# EAGLE library part ADC1413D* (library NewSDR)
NXP Dual 14-Bit ADC Serial JESD204A Interface
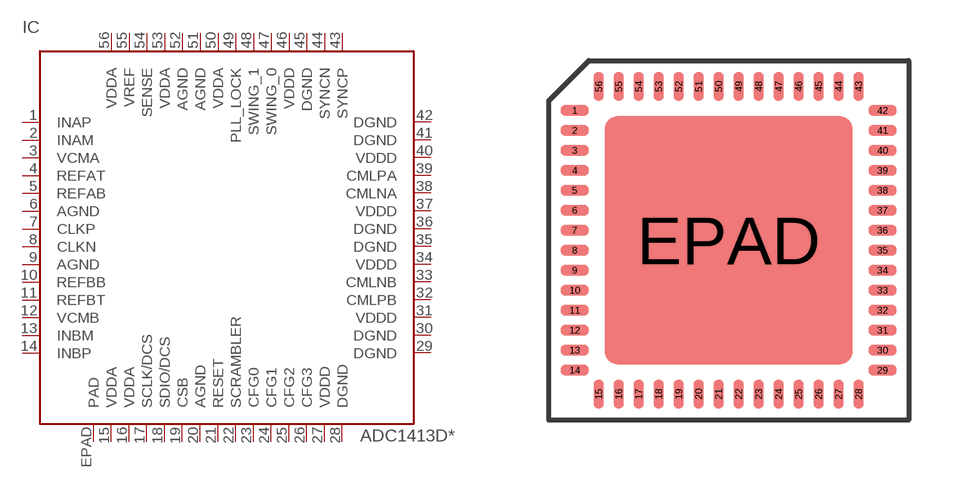
[diagram p127: symbol with the pads of QFN-56_P; footprint QFN-56_P]

Designator prefix IC

## ADC1413D065, ADC1413D080, ADC1413D105, ADC1413D125  [QFN-56_P]
1  INAP  in
2  INAM  in
3  VCMA  out
4  REFAT  out
5  REFAB  out
6  AGND  pwr
7  CLKP  in
8  CLKN  in
9  AGND  pwr
10  REFBB  out
11  REFBT  out
12  VCMB  out
13  INBM  in
14  INBP  in
15  VDDA  pwr
16  VDDA  pwr
17  SCLK/DCS  in
18  SDIO/DCS
19  CSB  in
20  AGND  pwr
21  RESET  in
22  SCRAMBLER  in
23  CFG0
24  CFG1
25  CFG2
26  CFG3
27  VDDD  pwr
28  DGND  pwr
29  DGND  pwr
30  DGND  pwr
31  VDDD  pwr
32  CMLPB  out
33  CMLNB  out
34  VDDD  pwr
35  DGND  pwr
36  DGND  pwr
37  VDDD  pwr
38  CMLNA  out
39  CMLPA  out
40  VDDD  pwr
41  DGND  pwr
42  DGND  pwr
43  SYNCP  in
44  SYNCN  in
45  DGND  pwr
46  VDDD  pwr
47  SWING_0  in
48  SWING_1  in
49  PLL_LOCK  out
50  VDDA  pwr
51  AGND  pwr
52  AGND  pwr
53  VDDA  pwr
54  SENSE  in
55  VREF
56  VDDA  pwr
EPAD  PAD  pwr

## Footprint QFN-56_P (pad centres in mm)
56-Pin QFN with E-Pad
smd 0.7 x 0.25: 1 -3.85,3.25; 2 -3.85,2.75; 3 -3.85,2.25; 4 -3.85,1.75; 5 -3.85,1.25; 6 -3.85,0.75; 7 -3.85,0.25; 8 -3.85,-0.25; 9 -3.85,-0.75; 10 -3.85,-1.25; 11 -3.85,-1.75; 12 -3.85,-2.25; 13 -3.85,-2.75; 14 -3.85,-3.25; 29 3.85,-3.25; 30 3.85,-2.75; 31 3.85,-2.25; 32 3.85,-1.75; 33 3.85,-1.25; 34 3.85,-0.75; 35 3.85,-0.25; 36 3.85,0.25; 37 3.85,0.75; 38 3.85,1.25; 39 3.85,1.75; 40 3.85,2.25; 41 3.85,2.75; 42 3.85,3.25
smd 0.25 x 0.7: 15 -3.25,-3.85; 16 -2.75,-3.85; 17 -2.25,-3.85; 18 -1.75,-3.85; 19 -1.25,-3.85; 20 -0.75,-3.85; 21 -0.25,-3.85; 22 0.25,-3.85; 23 0.75,-3.85; 24 1.25,-3.85; 25 1.75,-3.85; 26 2.25,-3.85; 27 2.75,-3.85; 28 3.25,-3.85; 43 3.25,3.85; 44 2.75,3.85; 45 2.25,3.85; 46 1.75,3.85; 47 1.25,3.85; 48 0.75,3.85; 49 0.25,3.85; 50 -0.25,3.85; 51 -0.75,3.85; 52 -1.25,3.85; 53 -1.75,3.85; 54 -2.25,3.85; 55 -2.75,3.85; 56 -3.25,3.85
smd 6.2 x 6.2: EPAD 0,0